# EAGLE library part ADP322 (library Supernode-PowerIC)
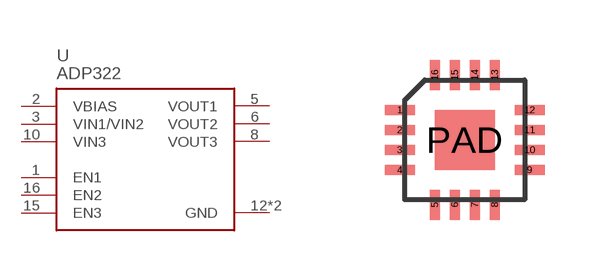
[diagram p1: symbol with the pads of LFCSP-16; footprint LFCSP-16]

Designator prefix U

## ADP322  [LFCSP-16]
1  EN1
2  VBIAS
3  VIN1/VIN2
5  VOUT1
6  VOUT2
8  VOUT3
10  VIN3
12  GND
15  EN3
16  EN2
PAD  GND

## Footprint LFCSP-16 (pad centres in mm)
smd 0.75 x 0.25: 1 -1.625,0.75; 2 -1.625,0.25; 3 -1.625,-0.25; 4 -1.625,-0.75; 9 1.625,-0.75; 10 1.625,-0.25; 11 1.625,0.25; 12 1.625,0.75
smd 0.25 x 0.75: 5 -0.75,-1.625; 6 -0.25,-1.625; 7 0.25,-1.625; 8 0.75,-1.625; 13 0.75,1.625; 14 0.25,1.625; 15 -0.25,1.625; 16 -0.75,1.625
smd 1.5 x 1.5: PAD 0,0